# Altium footprint library 5PIN1.PcbLib: 1 footprints
Each footprint in its own frame and in the unit in brackets; x right, y up, seen from the top. Pads: shape width x height; smd on the part's side, far side on the other; paste and mask are expansions set on the pad; w line width, h text height; cw(c..) or ccw(c..) is an arc to the next point about the centre after c.
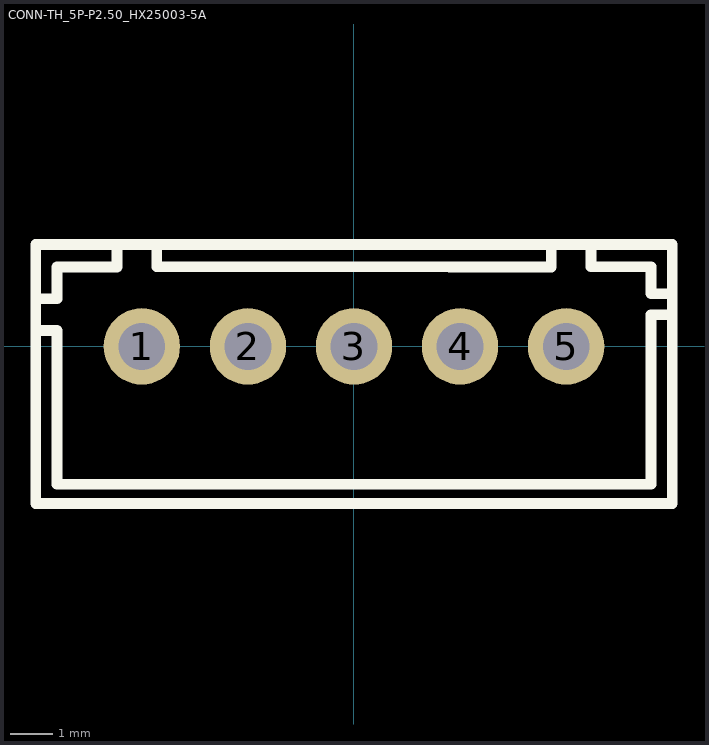
[diagram p0: the footprint, top view; thin cyan lines are the x and y axes]

## CONN-TH_5P-P2.50_HX25003-5A [mm]
pads (5):
  round 1.8 hole 1.1: 1(-5,0) 2(-2.5,0) 3(0,0) 4(2.5,0) 5(5,0)
Top Overlay:
  lines w0.254: -7.5,-2.499 -7.5,0.376 -7,0.376 -7,-2.499 -7,-3.251 7,-3.251 7,-2.428 7,0.749 7.501,0.749 7.501,-2.428 ; -7.5,-1.687 -7.5,1.133 -7,1.125 -7,1.875 -5.588,1.875 -5.588,2.324 ; -4.65,2.326 -4.65,1.876 2.293,1.876 2.25,1.875 ; 2.293,1.875 4.649,1.875 4.649,2.325 ; 5.586,1.877 7,1.877 7,1.25 7.5,1.239 7.501,-1.582 ; 5.587,1.876 5.587,2.325 ; -7.5,-3.7 -7.5,2.4 7.5,2.4 7.5,-3.7 -7.5,-3.7